# Altium schematic symbol library SamacSys.SchLib: 31 symbols
Pins are listed as number, name and electrical type; pins without a type are passive.

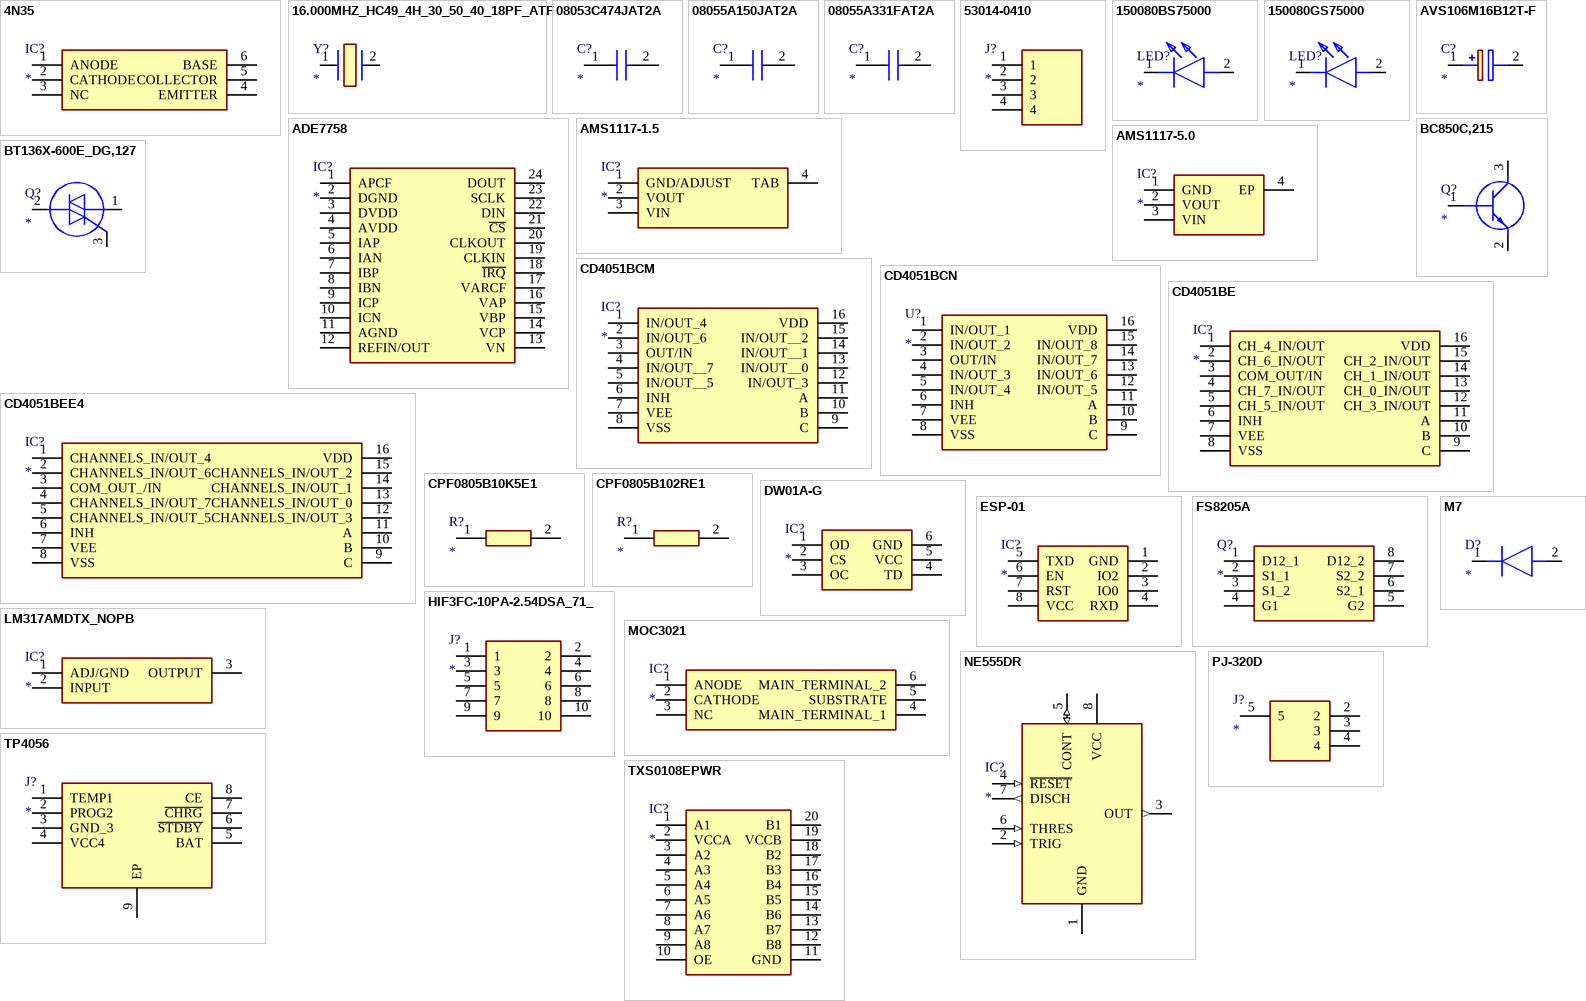
[diagram p0: symbols 4N35 to TXS0108EPWR]

## 4N35
designator IC?
Integrated Circuit; Manufacturer_Name: Texas Instruments; Manufacturer_Part_Number: 4N35; Datasheet Link: http://optoelectronics.liteon.com/upload/download/DS-70-99-0012/4N3X%20Series%201115.pdf; Height: 5.46mm
footprint DIP762W53P254L889H546Q6N
pins: 1 ANODE, 2 CATHODE, 3 NC, 4 EMITTER, 5 COLLECTOR, 6 BASE

## 16.000MHZ_HC49_4H_30_50_40_18PF_ATF
designator Y?
Crystal or Oscillator; Manufacturer_Name: EUROQUARTZ; Manufacturer_Part_Number: 16.000MHZ HC49/4H/30/50/40/18PF/ATF; Datasheet Link: http://www.farnell.com/datasheets/75357.pdf
footprint HC-49-4H
pins: 1, 2

## 08053C474JAT2A
designator C?
Capacitor; Manufacturer_Name: Kyocera AVX; Manufacturer_Part_Number: 08053C474JAT2A; Mouser Part Number: 581-08053C474JAT2A; Mouser Price/Stock: https://www.mouser.co.uk/ProductDetail/KYOCERA-AVX/08053C474JAT2A?qs=bb%252B1MDm7h6L8wnHciIrwGg%3D%3D
footprint CAPC2013X140N
pins: 1 C1, 2 C2

## 08055A150JAT2A
designator C?
Capacitor; Manufacturer_Name: Kyocera AVX; Manufacturer_Part_Number: 08055A150JAT2A; Datasheet Link: https://componentsearchengine.com/Datasheets/1/06031A100FAT2A.pdf; Height: 0.94mm; Mouser Part Number: 581-08055A150J; Mouser Price/Stock: https://www.mouser.co.uk/ProductDetail/AVX/08055A150JAT2A?qs=pZVDklL%2Fs8hiEua37sqbaA%3D%3D; Arrow Part Number: 08055A150JAT2A; Arrow Price/Stock: https://www.arrow.com/en/products/08055a150jat2a/avx?region=nac
footprint CAPC2012X94N
pins: 1, 2

## 08055A331FAT2A
designator C?
Capacitor; Manufacturer_Name: Kyocera AVX; Manufacturer_Part_Number: 08055A331FAT2A; Datasheet Link: https://componentsearchengine.com/Datasheets/1/06031A100FAT2A.pdf; Height: 0.94mm; Mouser Part Number: 581-08055A331FAT2A; Mouser Price/Stock: https://www.mouser.com/Search/Refine.aspx?Keyword=581-08055A331FAT2A; Arrow Part Number: 08055A331FAT2A; Arrow Price/Stock: https://www.arrow.com/en/products/08055a331fat2a/avx
footprint CAPC2012X94N
pins: 1, 2

## 53014-0410
designator J?
Connector; Manufacturer_Name: Molex; Manufacturer_Part_Number: 53014-0410; Datasheet Link: https://www.molex.com/pdm_docs/sd/530140410_sd.pdf; Height: 10mm; Mouser Part Number: 538-53014-0410; Mouser Price/Stock: https://www.mouser.co.uk/ProductDetail/Molex/53014-0410?qs=TLs3Kb%252BkMqKk8s1WRHwRGw%3D%3D
footprint SHDR4W60P0X200_1X4_1200X435X1000P
pins: 1, 2, 3, 4

## 150080BS75000
designator LED?
LED; Manufacturer_Name: Wurth Elektronik; Manufacturer_Part_Number: 150080BS75000; Datasheet Link: https://katalog.we-online.com/led/datasheet/150080BS75000.pdf; Height: 0.8mm; Mouser Part Number: 710-150080BS75000; Mouser Price/Stock: https://www.mouser.co.uk/ProductDetail/Wurth-Elektronik/150080BS75000?qs=2kOmHSv6VfT2tBo3UPVqAQ%3D%3D
footprint LEDC2012X80N
pins: 1 K, 2 A

## 150080GS75000
designator LED?
LED; Manufacturer_Name: Wurth Elektronik; Manufacturer_Part_Number: 150080GS75000; Datasheet Link: https://katalog.we-online.com/led/datasheet/150080GS75000.pdf; Height: 0.8mm; Mouser Part Number: 710-150080GS75000; Mouser Price/Stock: https://www.mouser.co.uk/ProductDetail/Wurth-Elektronik/150080GS75000?qs=2kOmHSv6VfQRoTEZVk1mGA%3D%3D
footprint LEDM2012X80N
pins: 1 K, 2 A

## ADE7758
designator IC?
Integrated Circuit; Manufacturer_Name: Analog Devices; Manufacturer_Part_Number: ADE7758; Datasheet Link: https://pdf1.alldatasheet.com/datasheet-pdf/view/85919/AD/ADE7758.html; Height: 2.65mm; Mouser Part Number: N/A; Mouser Price/Stock: https://www.mouser.co.uk/ProductDetail/Analog-Devices/ADE7758?qs=w%2Fv1CP2dgqragbhfqAeUAg%3D%3D
footprint SOIC127P1032X265-24N
pins: 1 APCF, 2 DGND, 3 DVDD, 4 AVDD, 5 IAP, 6 IAN, 7 IBP, 8 IBN, 9 ICP, 10 ICN, 11 AGND, 12 REFIN/OUT, 13 VN, 14 VCP, 15 VBP, 16 VAP, 17 VARCF, 18 ~{IRQ}, 19 CLKIN, 20 CLKOUT, 21 ~{CS}, 22 DIN, 23 SCLK, 24 DOUT

## AMS1117-1.5
designator IC?
Integrated Circuit; Manufacturer_Name: ams OSRAM; Manufacturer_Part_Number: AMS1117-1.5; Description: 1A LOW DROPOUT VOLTAGE REGULATOR; Datasheet Link: http://www.advanced-monolithic.com/pdf/ds1117.pdf; Height: 1.8mm
footprint SOT229P700X180-4N
pins: 1 GND/ADJUST, 2 VOUT, 3 VIN, 4 TAB

## AMS1117-5.0
designator IC?
Integrated Circuit; Manufacturer_Name: Shikues; Manufacturer_Part_Number: AMS1117-5.0; Description: Low Dropout Regulators(LDO) SOT-223 RoHS; Datasheet Link: https://datasheet.lcsc.com/szlcsc/SK-AMS1117-5-0_C165483.pdf; Height: 1.8mm
footprint SOT290P700X180-4N
pins: 1 GND, 2 VOUT, 3 VIN, 4 EP

## AVS106M16B12T-F
designator C?
Capacitor Polarised; Manufacturer_Name: Cornell Dubilier; Manufacturer_Part_Number: AVS106M16B12T-F; Datasheet Link: https://www.mouser.com/datasheet/2/88/AVS-25942.pdf; Height: 5.5mm; Mouser Part Number: 5985-AVS16V10-F; Mouser Price/Stock: https://www.mouser.co.uk/ProductDetail/Cornell-Dubilier-CDE/AVS106M16B12T-F?qs=%2Fqg72hM0uyzL462ZV6gueg%3D%3D
footprint CAPAE430X550N
pins: 1 +, 2 -

## BC850C,215
designator Q?
Transistor BJT NPN; Manufacturer_Name: Nexperia; Manufacturer_Part_Number: BC850C,215; Datasheet Link: https://assets.nexperia.com/documents/data-sheet/BC849_BC850.pdf; Height: 1.1mm; Mouser Part Number: 771-BC850C-T/R; Mouser Price/Stock: https://www.mouser.co.uk/ProductDetail/Nexperia/BC850C215?qs=me8TqzrmIYVR%2FGACbHj0Ow%3D%3D; Arrow Part Number: BC850C,215; Arrow Price/Stock: https://www.arrow.com/en/products/bc850c215/nexperia?region=europe
footprint BC850C215
pins: 1 B, 2 E, 3 C

## BT136X-600E_DG,127
designator Q?
Triac; Manufacturer_Name: NXP; Manufacturer_Part_Number: BT136X-600E/DG,127; Datasheet Link: https://datasheet.datasheetarchive.com/originals/distributors/Datasheets-DGA18/345768.pdf; Height: 4.6mm
footprint TO254P460X1000X1930-3P
pins: 1 MT1, 2 MT2, 3 G

## CD4051BCM
designator IC?
Integrated Circuit; Manufacturer_Name: onsemi; Manufacturer_Part_Number: CD4051BCM; Datasheet Link: https://media.digikey.com/pdf/Data%20Sheets/Fairchild%20PDFs/CD4051BC.pdf; Height: 1.753mm; Mouser Part Number: 512-CD4051BCM; Mouser Price/Stock: https://www.mouser.com/Search/Refine.aspx?Keyword=512-CD4051BCM
footprint SOIC127P599X175-16N
pins: 1 IN/OUT_4, 2 IN/OUT_6, 3 OUT/IN, 4 IN/OUT__7, 5 IN/OUT__5, 6 INH, 7 VEE, 8 VSS, 9 C, 10 B, 11 A, 12 IN/OUT_3, 13 IN/OUT__0, 14 IN/OUT__1, 15 IN/OUT__2, 16 VDD

## CD4051BCN
designator U?
Undefined or Miscellaneous; Manufacturer_Name: onsemi; Manufacturer_Part_Number: CD4051BCN; Datasheet Link: http://uk.rs-online.com/web/p/products/3455560; Height: 5.08mm; Mouser Part Number: 512-CD4051BCN; Mouser Price/Stock: https://www.mouser.com/Search/Refine.aspx?Keyword=512-CD4051BCN
footprint DIP787W58P254L1930H508Q16N
pins: 1 IN/OUT_1, 2 IN/OUT_2, 3 OUT/IN, 4 IN/OUT_3, 5 IN/OUT_4, 6 INH, 7 VEE, 8 VSS, 9 C, 10 B, 11 A, 12 IN/OUT_5, 13 IN/OUT_6, 14 IN/OUT_7, 15 IN/OUT_8, 16 VDD

## CD4051BE
designator IC?
Integrated Circuit; Manufacturer_Name: Texas Instruments; Manufacturer_Part_Number: CD4051BE; Datasheet Link: http://www.ti.com/lit/ds/symlink/cd4051b.pdf; Height: 5.08mm; Mouser Part Number: 595-CD4051BE; Mouser Price/Stock: https://www.mouser.co.uk/ProductDetail/Texas-Instruments/CD4051BE?qs=q2XTDbzbm6DxulBsMcV7tA%3D%3D; Arrow Part Number: CD4051BE; Arrow Price/Stock: https://www.arrow.com/en/products/cd4051be/texas-instruments?region=nac
footprint DIP794W53P254L1930H508Q16N
pins: 1 CH_4_IN/OUT, 2 CH_6_IN/OUT, 3 COM_OUT/IN, 4 CH_7_IN/OUT, 5 CH_5_IN/OUT, 6 INH, 7 VEE, 8 VSS, 9 C, 10 B, 11 A, 12 CH_3_IN/OUT, 13 CH_0_IN/OUT, 14 CH_1_IN/OUT, 15 CH_2_IN/OUT, 16 VDD

## CD4051BEE4
designator IC?
Integrated Circuit; Manufacturer_Name: Texas Instruments; Manufacturer_Part_Number: CD4051BEE4; Datasheet Link: http://www.ti.com/lit/ds/symlink/cd4051b.pdf; Height: 5.08mm; Mouser Part Number: 595-CD4051BEE4; Mouser Price/Stock: https://www.mouser.co.uk/ProductDetail/Texas-Instruments/CD4051BEE4?qs=LSR%252BNeaw%2FwCrL%2FkZ%252BI0u6g%3D%3D; Arrow Part Number: CD4051BEE4; Arrow Price/Stock: null?region=nac
footprint DIP794W53P254L1930H508Q16N
pins: 1 CHANNELS_IN/OUT_4, 2 CHANNELS_IN/OUT_6, 3 COM_OUT_/IN, 4 CHANNELS_IN/OUT_7, 5 CHANNELS_IN/OUT_5, 6 INH, 7 VEE, 8 VSS, 9 C, 10 B, 11 A, 12 CHANNELS_IN/OUT_3, 13 CHANNELS_IN/OUT_0, 14 CHANNELS_IN/OUT_1, 15 CHANNELS_IN/OUT_2, 16 VDD

## CPF0805B10K5E1
designator R?
Resistor; Manufacturer_Name: TE Connectivity; Manufacturer_Part_Number: CPF0805B10K5E1; Datasheet Link: http://docs-europe.electrocomponents.com/webdocs/13d1/0900766b813d116f.pdf; Height: 0.65mm; Mouser Part Number: 279-CPF0805B10K5E1; Mouser Price/Stock: https://www.mouser.com/Search/Refine.aspx?Keyword=279-CPF0805B10K5E1
footprint RESC2012X65N
pins: 1, 2

## CPF0805B102RE1
designator R?
Resistor; Manufacturer_Name: TE Connectivity; Manufacturer_Part_Number: CPF0805B102RE1; Datasheet Link: http://docs-europe.electrocomponents.com/webdocs/13d1/0900766b813d116f.pdf; Height: 0.65mm
footprint RESC2012X65N
pins: 1, 2

## DW01A-G
designator IC?
Integrated Circuit; Manufacturer_Name: SII Semiconductor; Manufacturer_Part_Number: DW01A-G; Datasheet Link: http://www.ic-fortune.com/upload/Download/DW01x-DS-17_EN.pdf; Height: 1.45mm
footprint SOT95P190X145-6N
pins: 1 OD, 2 CS, 3 OC, 4 TD, 5 VCC, 6 GND

## ESP-01
designator IC?
Integrated Circuit; Manufacturer_Name: Ai-Thinker; Manufacturer_Part_Number: ESP-01; Datasheet Link: https://docs.ai-thinker.com/_media/esp8266/docs/esp-01_product_specification_en.pdf
footprint ESP01
pins: 1 GND, 2 IO2, 3 IO0, 4 RXD, 5 TXD, 6 EN, 7 RST, 8 VCC

## FS8205A
designator Q?
Transistor; Manufacturer_Name: SII Semiconductor; Manufacturer_Part_Number: FS8205A; Datasheet Link: http://www.ic-fortune.com/upload/Download/FS8205A-DS-12_EN.pdf; Height: 1.2mm
footprint SOP65P640X120-8N
pins: 1 D12_1, 2 S1_1, 3 S1_2, 4 G1, 5 G2, 6 S2_1, 7 S2_2, 8 D12_2

## HIF3FC-10PA-2.54DSA_71_
designator J?
Connector; Manufacturer_Name: Hirose; Manufacturer_Part_Number: HIF3FC-10PA-2.54DSA(71); Datasheet Link: https://componentsearchengine.com/Datasheets/1/HIF3FC-10PA-2.54DSA(71).pdf; Height: 9.2mm; Mouser Part Number: 798-HIF3FC10PA254D71; Mouser Price/Stock: https://www.mouser.co.uk/ProductDetail/Hirose-Connector/HIF3FC-10PA-2.54DSA71?qs=eDUdFcBPps26f2LJxn%252B8VA%3D%3D
footprint SHDR10W50P254_2X5_2020X850X920P
pins: 1, 2, 3, 4, 5, 6, 7, 8, 9, 10

## LM317AMDTX_NOPB
designator IC?
Integrated Circuit; Manufacturer_Name: Texas Instruments; Manufacturer_Part_Number: LM317AMDTX/NOPB; Datasheet Link: http://www.ti.com/lit/gpn/lm317a; Mouser Part Number: 926-LM317AMDTX/NOPB; Mouser Price/Stock: https://www.mouser.co.uk/ProductDetail/Texas-Instruments/LM317AMDTX-NOPB?qs=X1J7HmVL2ZE2tJdeke3r6w%3D%3D; Arrow Part Number: LM317AMDTX/NOPB; Arrow Price/Stock: https://www.arrow.com/en/products/lm317amdtxnopb/texas-instruments?region=nac
footprint LM78M05CDT
pins: 1 ADJ/GND, 2 INPUT, 3 OUTPUT

## M7
designator D?
Diode; Manufacturer_Name: LGE; Manufacturer_Part_Number: M7; Datasheet Link: https://datasheet.lcsc.com/szlcsc/LGE-M7-SMAJ_C330214.pdf; Height: 2.45mm
footprint DIOM5626X245N
pins: 1 K, 2 A

## MOC3021
designator IC?
Integrated Circuit; Manufacturer_Name: Lite-On; Manufacturer_Part_Number: MOC3021; Datasheet Link: https://datasheet.datasheetarchive.com/originals/distributors/Datasheets-17/DSA-323139.pdf; Height: 4.5mm; Mouser Part Number: 859-MOC3021; Mouser Price/Stock: https://www.mouser.co.uk/ProductDetail/Lite-On/MOC3021?qs=%2F3Qg3%252BjSQfNbQyAt8MJ%2FPw%3D%3D; Arrow Part Number: MOC3021; Arrow Price/Stock: null?region=nac
footprint DIP762W60P254L730H450Q6N
pins: 1 ANODE, 2 CATHODE, 3 NC, 4 MAIN_TERMINAL_1, 5 SUBSTRATE, 6 MAIN_TERMINAL_2

## NE555DR
designator IC?
Integrated Circuit; Manufacturer_Name: Texas Instruments; Manufacturer_Part_Number: NE555DR; Datasheet Link: http://www.ti.com/lit/ds/symlink/ne555.pdf; Height: 1.75mm; Mouser Part Number: 595-NE555DR; Mouser Price/Stock: https://www.mouser.com/Search/Refine.aspx?Keyword=595-NE555DR; RS Part Number: 1218414; RS Price/Stock: http://uk.rs-online.com/web/p/products/1218414
footprint SOIC127P600X175-8N
pins: 1 GND (power), 2 TRIG (in), 3 OUT (out), 4 ~{RESET} (in), 5 CONT (io), 6 THRES (in), 7 DISCH (out), 8 VCC (power)

## PJ-320D
designator J?
Connector; Manufacturer_Name: Audio-Technica; Manufacturer_Part_Number: PJ-320D; Datasheet Link: https://p.globalsources.com/IMAGES/PDT/SPEC/432/K1007154432.pdf; Height: 5.6mm
footprint PJ320D
pins: 2, 3, 4, 5

## TP4056
designator J?
Connector; Manufacturer_Name: NanJing Top Power; Manufacturer_Part_Number: TP4056; Datasheet Link: https://dlnmh9ip6v2uc.cloudfront.net/datasheets/Prototyping/TP4056.pdf; Height: 1.75mm
footprint SOIC127P600X175-9N
pins: 1 TEMP1, 2 PROG2, 3 GND_3, 4 VCC4, 5 BAT, 6 ~{STDBY}, 7 ~{CHRG}, 8 CE, 9 EP

## TXS0108EPWR
designator IC?
Integrated Circuit; Manufacturer_Name: Texas Instruments; Description: TXS0108EPWR; Datasheet Link: http://www.ti.com/lit/ds/symlink/txs0108e.pdf; Height: 1.2mm; Manufacturer_Part_Number: TXS0108EPWR; Mouser Part Number: 595-TXS0108EPWR; Mouser Price/Stock: https://www.mouser.co.uk/ProductDetail/Texas-Instruments/TXS0108EPWR?qs=IUbkBnfnSQLgiWtCbWtYOw%3D%3D; Arrow Part Number: TXS0108EPWR; Arrow Price/Stock: https://www.arrow.com/en/products/txs0108epwr/texas-instruments?region=nac
footprint SOP65P640X120-20N
pins: 1 A1, 2 VCCA, 3 A2, 4 A3, 5 A4, 6 A5, 7 A6, 8 A7, 9 A8, 10 OE, 11 GND, 12 B8, 13 B7, 14 B6, 15 B5, 16 B4, 17 B3, 18 B2, 19 VCCB, 20 B1